# EAGLE library part LM324 (library IC_Linear)
Quad-Operational Amplifiers Reference Datasheet <https://www.ti.com/lit/ds/snosc16d/snosc16d.pdf>
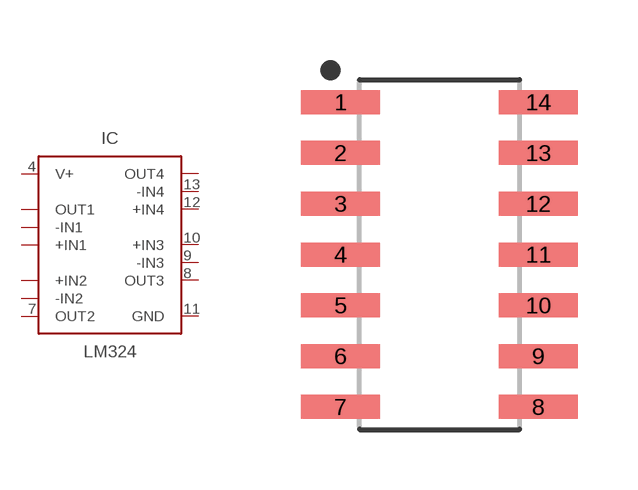
[diagram p24: symbol with the pads of SOIC127P600X175-14N; footprint SOIC127P600X175-14N]

Designator prefix IC

## LM324_SOIC (CATEGORY: Operational Amplifiers; DESCRIPTION: Quad-Operational Amplifiers; MANUFACTURER: Generic; MPN: Generic; SERIES: LM324; SUB-CATEGORY: Amplifier ICs; TYPE: Op Amps - Operational Amplifiers; VALUE: LM324)  [SOIC127P600X175-14N]
1  OUT1  in
2  -IN1  in
3  +IN1
4  V+  pas
5  +IN2  pas
6  -IN2  pas
7  OUT2  pas
8  OUT3  pas
9  -IN3  pas
10  +IN3  pas
11  GND  pas
12  +IN4
13  -IN4
14  OUT4  out

## Footprint SOIC127P600X175-14N (pad centres in mm)
14-SOIC, 1.27 mm pitch, 6.00 mm span, 8.65 X 3.90 X 1.75 mm body 14-pin SOIC package with 1.27 mm pitch, 6.00 mm span with body size 8.65 X 3.90 X 1.75 mm
smd 1.968 x 0.599: 1 -2.473,3.81; 2 -2.473,2.54; 3 -2.473,1.27; 4 -2.473,0; 5 -2.473,-1.27; 6 -2.473,-2.54; 7 -2.473,-3.81; 8 2.473,-3.81; 9 2.473,-2.54; 10 2.473,-1.27; 11 2.473,0; 12 2.473,1.27; 13 2.473,2.54; 14 2.473,3.81